# EAGLE library part IRS1075 (library my library)
High side mosfet driver
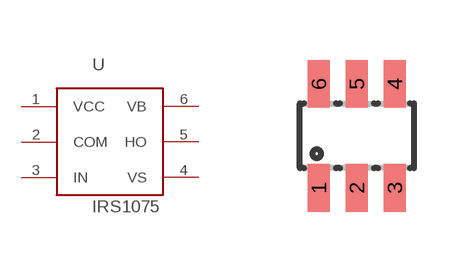
[diagram p2: symbol with the pads of SOT23-6L; footprint SOT23-6L]

Designator prefix -

## IRS1075SOT23-6L  [SOT23-6L]
1  VCC
2  COM
3  IN
4  VS
5  HO
6  VB

## Footprint SOT23-6L (pad centres in mm)
Small Outline Transistor
smd 0.55 x 1.2: 1 -0.95,-1.3; 2 0,-1.3; 3 0.95,-1.3; 4 0.95,1.3; 5 0,1.3; 6 -0.95,1.3